# Altium schematic symbol library BA033T.SchLib: 1 symbol
Pins are listed as number, name and electrical type; pins without a type are passive.

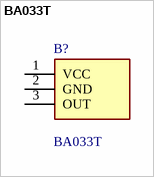
[diagram p0: symbol BA033T]

## BA033T
designator B?
LDO Voltage Regulators REGULATOR 3.3V 1A; Manufacturer_Name: ROHM Semiconductor; Geometry.Height: 4.8mm; Mouser Part Number: 755-BA033T; Mouser Price/Stock: https://www.mouser.co.uk/ProductDetail/ROHM-Semiconductor/BA033T?qs=4kLU8WoGk0sYiXn4dS5I2A%3D%3D; Manufacturer_Part_Number: BA033T; Datasheet Link: https://media.digikey.com/pdf/Data%20Sheets/Rohm%20PDFs/BAOOT,FP%20Series.pdf
footprint TO254P480X1010X2300-3P
pins: 1 VCC, 2 GND, 3 OUT